# EAGLE library part TELIT_LE866 (library clackboard_lib)
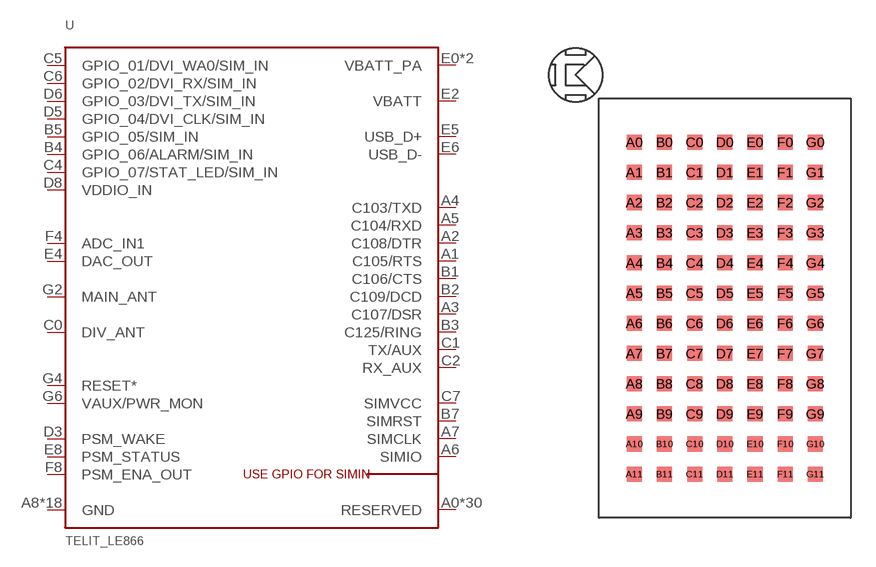
[diagram p15: symbol with the pads of TELIT_LE866; footprint TELIT_LE866]

Designator prefix U

## TELIT_LE866  [TELIT_LE866]
A0  RESERVED
A1  C105/RTS
A2  C108/DTR
A3  C107/DSR
A4  C103/TXD
A5  C104/RXD
A6  SIMIO
A7  SIMCLK
A8  GND
A9  RESERVED
A10  RESERVED
A11  GND
B0  GND
B1  C106/CTS
B2  C109/DCD
B3  C125/RING
B4  GPIO_06/ALARM/SIM_IN
B5  GPIO_05/SIM_IN
B6  RESERVED
B7  SIMRST
B8  RESERVED
B9  RESERVED
B10  RESERVED
B11  RESERVED
C0  DIV_ANT
C1  TX/AUX
C2  RX_AUX
C3  GND
C4  GPIO_07/STAT_LED/SIM_IN
C5  GPIO_01/DVI_WA0/SIM_IN
C6  GPIO_02/DVI_RX/SIM_IN
C7  SIMVCC
C8  RESERVED
C9  RESERVED
C10  RESERVED
C11  RESERVED
D0  GND
D1  GND
D2  GND
D3  PSM_WAKE
D4  RESERVED
D5  GPIO_04/DVI_CLK/SIM_IN
D6  GPIO_03/DVI_TX/SIM_IN
D7  RESERVED
D8  VDDIO_IN
D9  RESERVED
D10  RESERVED
D11  RESERVED
E0  VBATT_PA
E1  VBATT_PA
E2  VBATT
E3  GND
E4  DAC_OUT
E5  USB_D+
E6  USB_D-
E7  RESERVED
E8  PSM_STATUS
E9  RESERVED
E10  RESERVED
E11  RESERVED
F0  GND
F1  GND
F2  GND
F3  GND
F4  ADC_IN1
F5  RESERVED
F6  GND
F7  RESERVED
F8  PSM_ENA_OUT
F9  RESERVED
F10  RESERVED
F11  RESERVED
G0  GND
G1  GND
G2  MAIN_ANT
G3  GND
G4  RESET*
G5  RESERVED
G6  VAUX/PWR_MON
G7  RESERVED
G8  GND
G9  RESERVED
G10  RESERVED
G11  GND

## Footprint TELIT_LE866 (pad centres in mm)
smd 0.9 x 0.9: A0 -5.4,9.9; A1 -5.4,8.1; A2 -5.4,6.3; A3 -5.4,4.5; A4 -5.4,2.7; A5 -5.4,0.9; A6 -5.4,-0.9; A7 -5.4,-2.7; A8 -5.4,-4.5; A9 -5.4,-6.3; A10 -5.4,-8.1; A11 -5.4,-9.9; B0 -3.6,9.9; B1 -3.6,8.1; B2 -3.6,6.3; B3 -3.6,4.5; B4 -3.6,2.7; B5 -3.6,0.9; B6 -3.6,-0.9; B7 -3.6,-2.7; B8 -3.6,-4.5; B9 -3.6,-6.3; B10 -3.6,-8.1; B11 -3.6,-9.9; C0 -1.8,9.9; C1 -1.8,8.1; C2 -1.8,6.3; C3 -1.8,4.5; C4 -1.8,2.7; C5 -1.8,0.9; C6 -1.8,-0.9; C7 -1.8,-2.7; C8 -1.8,-4.5; C9 -1.8,-6.3; C10 -1.8,-8.1; C11 -1.8,-9.9; D0 0,9.9; D1 0,8.1; D2 0,6.3; D3 0,4.5; D4 0,2.7; D5 0,0.9; D6 0,-0.9; D7 0,-2.7; D8 0,-4.5; D9 0,-6.3; D10 0,-8.1; D11 0,-9.9; E0 1.8,9.9; E1 1.8,8.1; E2 1.8,6.3; E3 1.8,4.5; E4 1.8,2.7; E5 1.8,0.9; E6 1.8,-0.9; E7 1.8,-2.7; E8 1.8,-4.5; E9 1.8,-6.3; E10 1.8,-8.1; E11 1.8,-9.9; F0 3.6,9.9; F1 3.6,8.1; F2 3.6,6.3; F3 3.6,4.5; F4 3.6,2.7; F5 3.6,0.9; F6 3.6,-0.9; F7 3.6,-2.7; F8 3.6,-4.5; F9 3.6,-6.3; F10 3.6,-8.1; F11 3.6,-9.9; G0 5.4,9.9; G1 5.4,8.1; G2 5.4,6.3; G3 5.4,4.5; G4 5.4,2.7; G5 5.4,0.9; G6 5.4,-0.9; G7 5.4,-2.7; G8 5.4,-4.5; G9 5.4,-6.3; G10 5.4,-8.1; G11 5.4,-9.9